# Altium footprint library PCB_EPS_2.PcbLib: 44 footprints (part 3 of 3)
Each footprint in its own frame and in the unit in brackets; x right, y up, seen from the top. Pads: shape width x height; smd on the part's side, far side on the other; paste and mask are expansions set on the pad; w line width, h text height; cw(c..) or ccw(c..) is an arc to the next point about the centre after c.
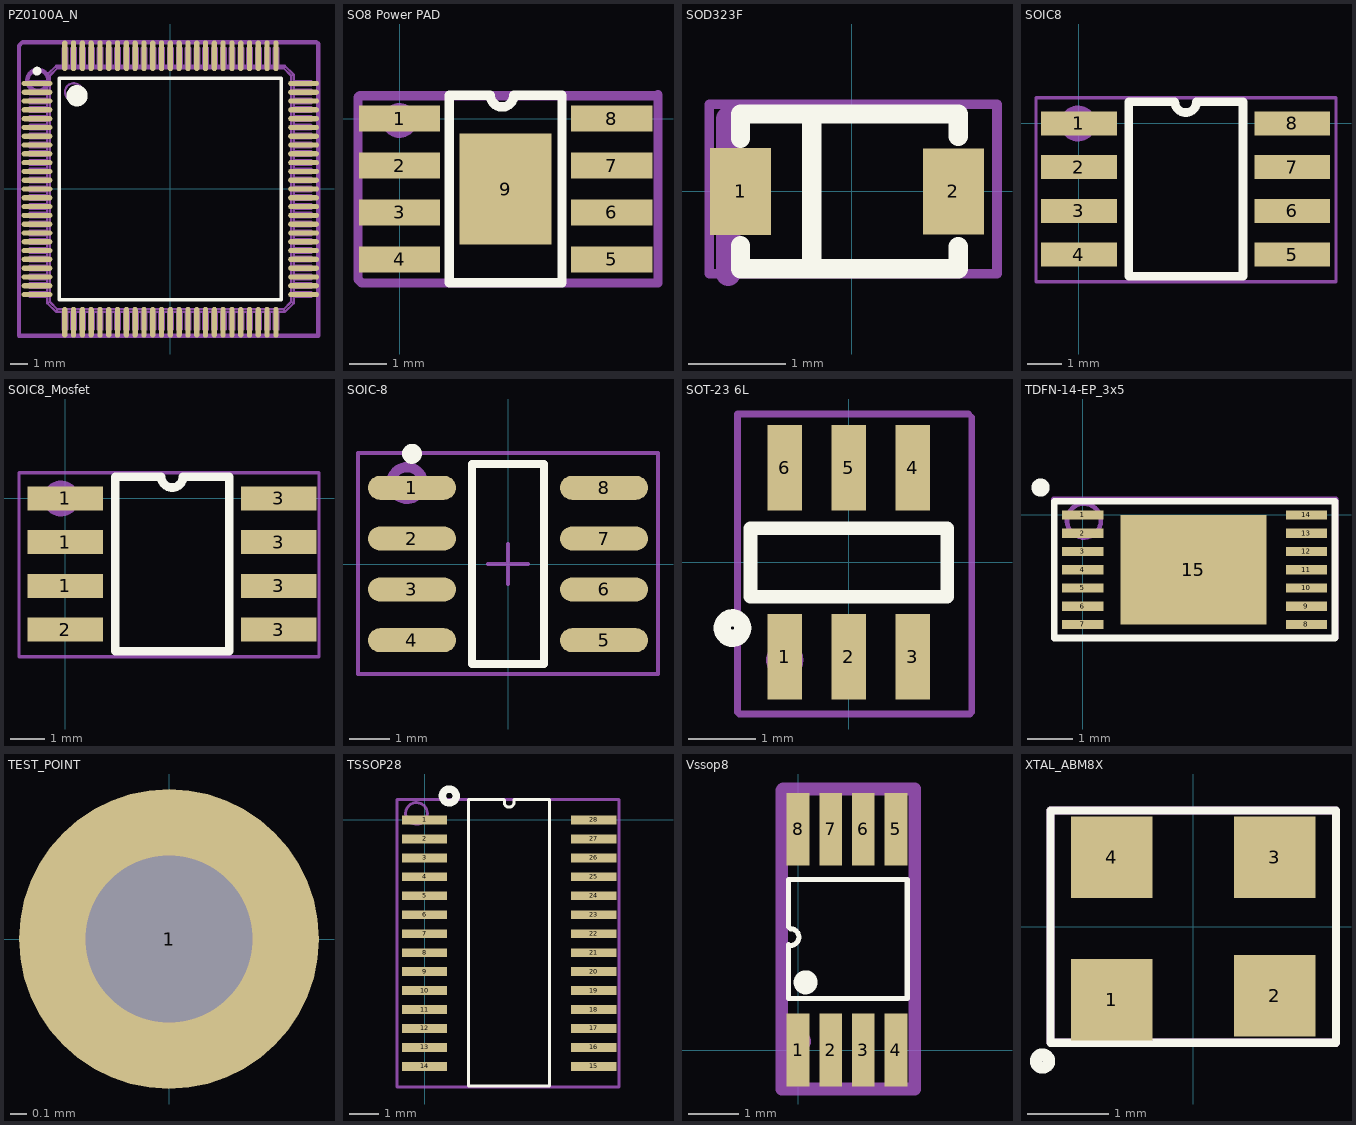
[diagram p2: the footprints below, top view; thin cyan lines are the x and y axes]

## PZ0100A_N [mm]
height 3.1
pads (100):
  oval 1.75x0.3 smd paste-0.102 mask+0.051: 1(-7.575,6) 2(-7.575,5.5) 3(-7.575,5) 4(-7.575,4.5) 5(-7.575,4) 6(-7.575,3.5) 7(-7.575,3) 8(-7.575,2.5) 9(-7.575,2) 10(-7.575,1.5) 11(-7.575,1) 12(-7.575,0.5) 13(-7.575,0) 14(-7.575,-0.5) 15(-7.575,-1) 16(-7.575,-1.5) 17(-7.575,-2) 18(-7.575,-2.5) 19(-7.575,-3) 20(-7.575,-3.5) 21(-7.575,-4) 22(-7.575,-4.5) 23(-7.575,-5) 24(-7.575,-5.5) 25(-7.575,-6) 51(7.575,-6) 52(7.575,-5.5) 53(7.575,-5) 54(7.575,-4.5) 55(7.575,-4) 56(7.575,-3.5) 57(7.575,-3) 58(7.575,-2.5) 59(7.575,-2) 60(7.575,-1.5) 61(7.575,-1) 62(7.575,-0.5) 63(7.575,0) 64(7.575,0.5) 65(7.575,1) 66(7.575,1.5) 67(7.575,2) 68(7.575,2.5) 69(7.575,3) 70(7.575,3.5) 71(7.575,4) 72(7.575,4.5) 73(7.575,5) 74(7.575,5.5) 75(7.575,6)
  oval 0.3x1.75 smd paste-0.102 mask+0.051: 26(-6,-7.575) 27(-5.5,-7.575) 28(-5,-7.575) 29(-4.5,-7.575) 30(-4,-7.575) 31(-3.5,-7.575) 32(-3,-7.575) 33(-2.5,-7.575) 34(-2,-7.575) 35(-1.5,-7.575) 36(-1,-7.575) 37(-0.5,-7.575) 38(0,-7.575) 39(0.5,-7.575) 40(1,-7.575) 41(1.5,-7.575) 42(2,-7.575) 43(2.5,-7.575) 44(3,-7.575) 45(3.5,-7.575) 46(4,-7.575) 47(4.5,-7.575) 48(5,-7.575) 49(5.5,-7.575) 50(6,-7.575) 76(6,7.575) 77(5.5,7.575) 78(5,7.575) 79(4.5,7.575) 80(4,7.575) 81(3.5,7.575) 82(3,7.575) 83(2.5,7.575) 84(2,7.575) 85(1.5,7.575) 86(1,7.575) 87(0.5,7.575) 88(0,7.575) 89(-0.5,7.575) 90(-1,7.575) 91(-1.5,7.575) 92(-2,7.575) 93(-2.5,7.575) 94(-3,7.575) 95(-3.5,7.575) 96(-4,7.575) 97(-4.5,7.575) 98(-5,7.575) 99(-5.5,7.575) 100(-6,7.575)
Top Overlay:
  circle w0.6: c-5.3,5.3 r0.3
  circle w0.25: c-7.575,6.7 r0.125
  lines w0.2: -6.3,-6.3 6.3,-6.3 6.3,6.3 -6.3,6.3 -6.3,-6.3
Mechanical 1:
  drawing of 1326 lines, arcs and shapes, not listed
Mechanical 13:
  text ".Designator" at -6.275,1.125 h0.89
Mechanical 15:
  circle w0.254: c-7.525,6.175 r0.596
  lines w0.254: -8.6,-8.35 8.4,-8.35 8.4,8.25 8.3,8.35 -8.4,8.35 -8.6,8.15 -8.6,-8.35
  text ".Designator" at -4.091,3.363 h0.89
3D body "User Library-LQFP100-3.STEP": height 1.62, standoff -0.01, extent -8.097,-8.097 8.047,8.047

## SO8 Power PAD [mm]
height 3.1
pads (9):
  rect 2.2x0.7 smd: 1(0,0) 2(0,-1.27) 3(0,-2.54) 4(0,-3.81) 5(5.75,-3.81) 6(5.75,-2.54) 7(5.75,-1.27) 8(5.75,0)
  rect 2.49x3 smd: 9(2.875,-1.905)
Top Overlay:
  lines w0.254: 2.45,0.635 1.35,0.635 1.35,-4.445 4.4,-4.445 4.4,0.635 3.1,0.635 ; 2.46,0.635 ccw(c2.777,0.635) 3.095,0.635
Mechanical 15:
  circle w0.254: c0,-0.05 r0.347
  lines w0.254: -1.125,-4.35 -1.125,0.575 -1.075,0.625 6.975,0.625 7,0.65 7,-4.45 -1.025,-4.45 -1.125,-4.35
  text ".Designator" at -0.05,-1.55 h0.89
3D body "User Library-SOIC-8 - TEK.step": height 1.7, standoff -0.05, extent -0.125,-4.405 5.875,0.595

## SOD323F [mm]
height 0.8
pads (2):
  rect 0.63x0.9 smd mask+0.05: 1(-1.15,0)
  rect 0.63x0.89 smd mask+0.05: 2(1.05,0)
Top Overlay:
  lines w0.2: -1.15,-0.8 1.1,-0.8 1.1,-0.571 ; -1.15,-0.79 -1.15,-0.562 ; -1.15,0.546 -1.15,0.775 ; -1.15,0.8 1.1,0.8 1.1,0.571 ; -0.413,-0.8 -0.413,0.8
Mechanical 15:
  lines w0.1: -1.475,-0.85 1.5,-0.85 1.5,0.9 -1.475,0.9 -1.475,-0.85
  lines w0.254: -1.275,-0.85 -1.275,0.75
  text ".Designator" at -1.125,-0.2 h0.89
3D body "User Library-SOD323F.STEP": height 0.75, standoff -0.01, extent -1.451,-0.675 1.349,0.675

## SOIC8 [mm]
height 3.1
pads (8):
  rect 2.2x0.7 smd: 1(0,0) 2(0,-1.27) 3(0,-2.54) 4(0,-3.81) 5(6.205,-3.81) 6(6.205,-2.54) 7(6.205,-1.27) 8(6.205,0)
Top Overlay:
  lines w0.254: 1.449,-4.445 1.449,0.635 2.785,0.635 ccw(c3.103,0.635) 3.42,0.635 4.768,0.635 4.768,-4.445 1.449,-4.445
Mechanical 15:
  circle w0.254: c-0.025,0 r0.395
  lines w0.1: -1.25,-4.6 -1.25,0.75 7.475,0.75 7.475,-4.6 -1.25,-4.6
  text ".Designator" at 0.025,-2.325 h0.89
3D body "User Library-SOIC-8 - TEK.step": height 1.7, standoff -0.05, extent 0.103,-4.4 6.103,0.6

## SOIC8_Mosfet [mm]
height 3.1
pads (8):
  rect 2.2x0.7 smd: 1(0,-2.54) 1(0,-1.27) 1(0,0) 2(0,-3.81) 3(6.205,-3.81) 3(6.205,-2.54) 3(6.205,-1.27) 3(6.205,0)
Top Overlay:
  lines w0.254: 1.449,-4.445 4.768,-4.445 4.768,0.635 3.42,0.635 cw(c3.103,0.635) 2.785,0.635 1.449,0.635 1.449,-4.445
Mechanical 15:
  circle w0.254: c-0.125,0 r0.395
  lines w0.1: -1.35,-4.6 -1.35,0.75 7.375,0.75 7.375,-4.6 -1.35,-4.6
  text ".Designator" at -0.075,-2.325 h0.89
3D body "User Library-SOIC-8 - TEK.step": height 1.7, standoff -0.05, extent 0.103,-4.4 6.103,0.6

## SOIC-8 [mm] "SOIC, 8-Leads, Body 4,89x3,90mm, Pitch 1,27mm, IPC Medium Density"
height 1.75
pads (8):
  oval 2.2x0.6 smd: 1(-2.4,1.905) 2(-2.4,0.635) 3(-2.4,-0.635) 4(-2.4,-1.905) 5(2.4,-1.905) 6(2.4,-0.635) 7(2.4,0.635) 8(2.4,1.905)
Top Overlay:
  circle w0.25: c-2.4,2.755 r0.125
  lines w0.2: -0.9,-2.5 -0.9,2.5 0.9,2.5 0.9,-2.5 -0.9,-2.5
Mechanical 15:
  circle w0.254: c-2.525,2.025 r0.395
  lines w0.05: -3.75,-2.75 -3.75,2.75 3.75,2.75 3.75,-2.75 -3.75,-2.75
  lines w0.1: -0.5,0 0.5,0 ; 0,-0.5 0,0.5 ; -3.75,-2.75 3.75,-2.75 3.75,2.775 -3.75,2.775 -3.75,-2.75
  text ".Designator" at -2.475,-0.3 h0.89
3D body "SOIC-8-1.STEP": height 1.75, standoff 0, extent -3,-2.45 3,2.45

## SOT-23 6L [mm]
height 3.1
pads (6):
  rect 0.508x1.27 smd: 1(-0.95,-1.4) 2(0,-1.4) 3(0.95,-1.4) 4(0.95,1.4) 5(0,1.4) 6(-0.95,1.4)
Top Overlay:
  circle w0.254: c-1.725,-0.975 r0.152
  lines w0.203: -1.458,-0.511 1.463,-0.511 1.463,0.505 -1.458,0.505 -1.458,-0.511
Mechanical 15:
  circle w0.254: c-0.95,-1.45 r0.15
  lines w0.1: -1.65,-2.225 -1.65,2.2 1.775,2.2 ; -1.625,-2.25 1.8,-2.25 ; 1.825,-2.225 1.825,2.15
  text ".Designator" at 0.175,-1.925 h0.89
3D body "SOT-23-6-3.STEP": height 0.86, standoff 0, extent -1.5,-1.405 1.5,1.405

## TDFN-14-EP_3x5 [mm]
height 3.1
pads (15):
  rect 0.9x0.2 smd: 1(0,0) 2(0,-0.4) 3(0,-0.8) 4(0,-1.2) 6(0,-2) 7(0,-2.4) 8(4.9,-2.4) 9(4.9,-2) 10(4.9,-1.6) 11(4.9,-1.2) 12(4.9,-0.8) 13(4.9,-0.4) 14(4.9,0)
  rect 0.9x0.2 smd paste+0: 5(0,-1.6)
  rect 3.2x2.4 smd: 15(2.425,-1.2)
Top Overlay:
  circle w0.2: c-0.925,0.6 r0.1
  lines w0.15: -0.625,-2.7 -0.625,0.3 5.525,0.3 5.525,-2.7 -0.625,-2.7
Mechanical 15:
  circle w0.1: c0.025,-0.125 r0.372
  lines w0.1: 0.975,-1.2 1.975,-1.2 ; 1.475,-1.7 1.475,-0.7 ; -0.65,-2.7 5.55,-2.7 5.55,0.35 -0.65,0.35 -0.65,-2.7
  text ".Designator" at 0.475,-0.425 h0.89
3D body "MAXIM PACKAGE DUTLINE 14L TDFN.STEP": height 0.8, standoff -0.05, extent -0.175,-2.675 5.025,0.325

## TEST_POINT [mm]
height 3.1
pads (1):
  round 1.8 hole 1: 1(0,0)

## TSSOP28 [mm]
height 3.1
pads (28):
  rect 1.55x0.3 smd: 1(0,0) 2(0,-0.65) 3(0,-1.3) 4(0,-1.95) 5(0,-2.6) 6(0,-3.25) 7(0,-3.9) 8(0,-4.55) 9(0,-5.2) 10(0,-5.85) 11(0,-6.5) 12(0,-7.15) 13(0,-7.8) 14(0,-8.45) 15(5.8,-8.45) 16(5.8,-7.8) 17(5.8,-7.15) 18(5.8,-6.5) 19(5.8,-5.85) 20(5.8,-5.2) 21(5.8,-4.55) 22(5.8,-3.9) 23(5.8,-3.25) 24(5.8,-2.6) 25(5.8,-1.95) 26(5.8,-1.3) 27(5.8,-0.65) 28(5.8,0)
Top Overlay:
  circle w0.254: c0.85,0.825 r0.237
  lines w0.1: 2.738,0.525 2.738,0.688 2.725,0.7 1.51,0.7 1.51,-9.125 4.29,-9.125 4.29,0.7 3.062,0.7 3.062,0.55 ; 2.738,0.6 ccw(c2.9,0.6) 3.062,0.6
Mechanical 15:
  circle w0.1: c-0.275,0.225 r0.372
  lines w0.1: -0.95,-9.15 -0.95,0.7 6.675,0.7 6.675,-9.15 -0.95,-9.15
  text ".Designator" at -0.475,-0.9 h0.89
3D body "TSSOP-28_P065.STEP": height 1.02, standoff 0.03, extent -0.3,-9.075 6.1,0.625

## Vssop8 [mm]
height 3.1
pads (8):
  rect 0.45x1.45 smd: 1(0,0) 2(0.65,0) 3(1.3,0) 4(1.95,0) 5(1.95,4.4) 6(1.3,4.4) 7(0.65,4.4) 8(0,4.4)
Top Overlay:
  circle w0.254: c0.15,1.35 r0.112
  lines w0.1: -0.19,2.1 -0.19,1.025 2.175,1.025 2.175,1.594 2.175,2.781 2.175,3.375 ; -0.19,2.45 -0.19,3.4 2.175,3.4 ; -0.15,2.083 ccw(c-0.15,2.25) -0.15,2.417
Mechanical 15:
  circle w0.254: c0.025,0.175 r0.103
  lines w0.254: -0.325,-0.775 -0.325,5.175 -0.3,5.2 2.325,5.2 2.325,-0.775 -0.325,-0.775
  text ".Designator" at 1.275,0.05 h0.89
3D body "User Library-EMSOP-8 Natl Semi MUY08A.STEP": height 2.29, standoff 1.19, extent -0.525,-0.275 2.475,4.725

## XTAL_ABM8X [mm]
height 3.1
pads (4):
  rect 1x1 smd: 1(-1,-0.9) 2(1,-0.85) 3(1,0.85) 4(-1,0.85)
Top Overlay:
  circle w0.15: c-1.85,-1.65 r0.08
  lines w0.1: -1.75,-1.425 -1.75,1.425 1.75,1.425 1.75,-1.425 -1.75,-1.425
Mechanical 15:
  circle w0.254: c-0.925,-0.85 r0.292
  lines w0.1: -1.75,-1.425 1.75,-1.425 1.75,1.425 -1.75,1.425 -1.75,-1.425
  text ".Designator" at -1.075,-0.05 h0.89
3D body "ABM8X.STEP": height 0.6, standoff 0, extent -1.6,-1.225 1.6,1.275